# Altium integrated library C1206C105K5RACTU.IntLib: 1 symbol
Pins are listed as number, name and electrical type; pins without a type are passive.

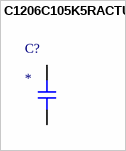
[diagram p0: symbol C1206C105K5RACTU]

## C1206C105K5RACTU
designator C?
1206 C 1uF Ceramic Multilayer Capacitor, 50 VDC, +125degC, X7R Dielec, +/-10% | KEMET C1206C105K5RACTU; SnapEDA_Link: https://www.snapeda.com/parts/C1206C105K5RACTU/KEMET/view-part/?ref=snap; Package: 1206-2 KEMET; Value: *; MF: KEMET; MP: C1206C105K5RACTU; Check_prices: https://www.snapeda.com/parts/C1206C105K5RACTU/KEMET/view-part/?ref=eda
footprint CAPC3216X120N
pins: 1 A, 2 B